# Altium footprint library EMW3166.PcbLib: 1 footprints
Each footprint in its own frame and in the unit in brackets; x right, y up, seen from the top. Pads: shape width x height; smd on the part's side, far side on the other; paste and mask are expansions set on the pad; w line width, h text height; cw(c..) or ccw(c..) is an arc to the next point about the centre after c.
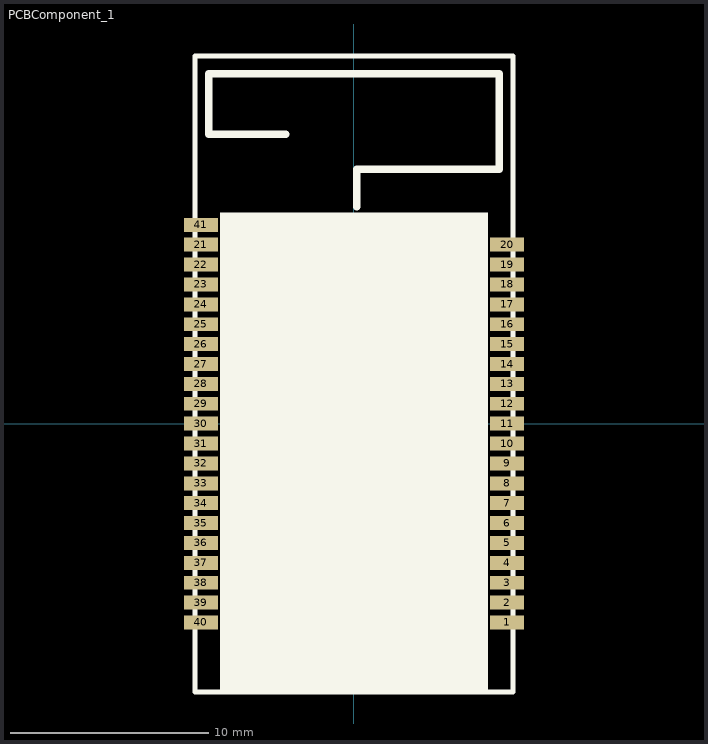
[diagram p0: the footprint, top view; thin cyan lines are the x and y axes]

## PCBComponent_1 [mm]
pads (41):
  rect 1.7x0.7 smd: 1(7.7,-10) 2(7.7,-9) 3(7.7,-8) 4(7.7,-7) 5(7.7,-6) 6(7.7,-5) 7(7.7,-4) 8(7.7,-3) 9(7.7,-2) 10(7.7,-1) 11(7.7,0) 12(7.7,1) 13(7.7,2) 14(7.7,3) 15(7.7,4) 16(7.7,5) 17(7.7,6) 18(7.7,7) 19(7.7,8) 20(7.7,9) 21(-7.7,9) 22(-7.7,8) 23(-7.7,7) 24(-7.7,6) 25(-7.7,5) 26(-7.7,4) 27(-7.7,3) 28(-7.7,2) 29(-7.7,1) 30(-7.7,0) 31(-7.7,-1) 32(-7.7,-2) 33(-7.7,-3) 34(-7.7,-4) 35(-7.7,-5) 36(-7.7,-6) 37(-7.7,-7) 38(-7.7,-8) 39(-7.7,-9) 40(-7.7,-10) 41(-7.7,10)
Top Overlay:
  rectangle: -6.73,-13.505 6.732,10.625
  lines w0.254: -8,-13.5 8,-13.5 8,14.5 8,18.5 -8,18.5 -8,-13.5
  lines w0.381: -3.428,14.562 -7.3,14.562 -7.3,17.6 7.3,17.6 7.3,12.8 0.128,12.8 0.128,10.9
3D body "SW3dPS-U.FL-R-SMT-1.STEP": height 2.25, standoff 0.99, extent 2.972,7.475 6.072,10.475
3D body: height 1.01, standoff 1, extent -7.594,10.513 7.444,17.838
3D body: height 1, standoff 0, extent 7.546,-10.34 7.876,-9.654
3D body: height 1, standoff 0, extent 7.546,-9.336 7.876,-8.651
3D body: height 1, standoff 0, extent 7.546,-7.343 7.876,-6.657
3D body: height 1, standoff 0, extent 7.546,-8.346 7.876,-7.66
3D body: height 1, standoff 0, extent 7.546,-5.336 7.876,-4.65
3D body: height 1, standoff 0, extent 7.546,-6.339 7.876,-5.653
3D body: height 1, standoff 0, extent 7.546,0.658 7.876,1.344
3D body: height 1, standoff 0, extent 7.546,1.662 7.876,2.348
3D body: height 1, standoff 0, extent 7.546,-1.348 7.876,-0.662
3D body: height 1, standoff 0, extent 7.546,-0.345 7.876,0.341
3D body: height 1, standoff 0, extent 7.546,-2.339 7.876,-1.653
3D body: height 1, standoff 0, extent 7.546,-3.342 7.876,-2.656
3D body: height 1, standoff 0, extent 7.546,-4.345 7.876,-3.659
3D body: height 1, standoff 0, extent 7.546,7.656 7.876,8.342
3D body: height 1, standoff 0, extent 7.546,8.659 7.876,9.345
3D body: height 1, standoff 0, extent 7.546,5.649 7.876,6.335
3D body: height 1, standoff 0, extent 7.546,6.653 7.876,7.339
3D body: height 1, standoff 0, extent 7.546,4.659 7.876,5.345
3D body: height 1, standoff 0, extent 7.546,3.656 7.876,4.341
3D body: height 1, standoff 0, extent 7.546,2.652 7.876,3.338
3D body: height 1, standoff 0, extent -8.001,-4.336 -7.671,-3.65
3D body: height 1, standoff 0, extent -8.001,-5.339 -7.671,-4.653
3D body: height 1, standoff 0, extent -8.001,-6.342 -7.671,-5.656
3D body: height 1, standoff 0, extent -8.001,-8.336 -7.671,-7.65
3D body: height 1, standoff 0, extent -8.001,-7.333 -7.671,-6.647
3D body: height 1, standoff 0, extent -8.001,-10.343 -7.671,-9.657
3D body: height 1, standoff 0, extent -8.001,-9.34 -7.671,-8.654
3D body: height 1, standoff 0, extent -8.001,2.662 -7.671,3.348
3D body: height 1, standoff 0, extent -8.001,1.659 -7.671,2.345
3D body: height 1, standoff 0, extent -8.001,0.655 -7.671,1.341
3D body: height 1, standoff 0, extent -8.001,-1.339 -7.671,-0.653
3D body: height 1, standoff 0, extent -8.001,-0.335 -7.671,0.351
3D body: height 1, standoff 0, extent -8.001,-3.345 -7.671,-2.659
3D body: height 1, standoff 0, extent -8.001,-2.342 -7.671,-1.656
3D body: height 1, standoff 0, extent -8.001,4.656 -7.671,5.342
3D body: height 1, standoff 0, extent -8.001,3.652 -7.671,4.338
3D body: height 1, standoff 0, extent -8.001,6.662 -7.671,7.348
3D body: height 1, standoff 0, extent -8.001,5.659 -7.671,6.345
3D body: height 1, standoff 0, extent -8.001,7.653 -7.671,8.339
3D body: height 1, standoff 0, extent -8.001,8.656 -7.671,9.342
3D body: height 1, standoff 0, extent -8.001,9.66 -7.671,10.345
3D body: height 3, standoff 1, extent -7.365,-13.175 7.367,8.542
3D body: height 1, standoff 0, extent -8,-13.429 7.875,18.321